# Altium schematic symbol library LMR38020FSDDAR.SchLib: 1 symbol
Pins are listed as number, name and electrical type; pins without a type are passive.

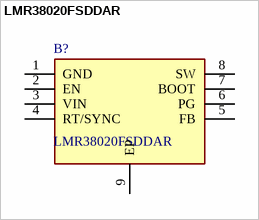
[diagram p0: symbol LMR38020FSDDAR]

## LMR38020FSDDAR
designator B?
Switching Voltage Regulators SIMPLE SWITCHER power converter 4.2-V to 80-V, 2-A, synchronous buck with 40- uA IQ 8-SO PowerPAD -40 to 150; Manufacturer_Name: Texas Instruments; Geometry.Height: 1.7mm; Mouser Part Number: 595-LMR38020FSDDAR; Mouser Price/Stock: https://www.mouser.co.uk/ProductDetail/Texas-Instruments/LMR38020FSDDAR?qs=Li%252BoUPsLEntEBCY4Tfvw5g%3D%3D; Manufacturer_Part_Number: LMR38020FSDDAR; Datasheet Link: https://www.ti.com/lit/ds/symlink/lmr38020.pdf?ts=1680684106501&ref_url=https%253A%252F%252Fwww.ti.com%252Fproduct%252FLMR38020%252Fpart-details%252FLMR38020FSDDAR
footprint SOIC127P600X170-9N
pins: 1 GND, 2 EN, 3 VIN, 4 RT/SYNC, 5 FB, 6 PG, 7 BOOT, 8 SW, 9 EP